# Altium schematic symbol library RC0402FR-0735KL.SchLib: 1 symbol
Pins are listed as number, name and electrical type; pins without a type are passive.

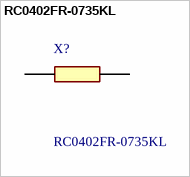
[diagram p0: symbol RC0402FR-0735KL]

## RC0402FR-0735KL
designator X?
GENERAL PURPOSE CHIP RESISTORS RC_L series +/-0.1%, +/-0.5%, +/-1%, +/-5% Sizes 0075/0100/0201/0402/0603/0805/ 1206/1210/1218/2010/2512 RoHS compliant & Halogen free; Manufacturer_Name: YAGEO; Geometry.Height: 0.4mm; Manufacturer_Part_Number: RC0402FR-0735KL; Mouser Part Number: *; Mouser Price/Stock: *; Arrow Part Number: *; Arrow Price/Stock: *; Datasheet Link: https://www.mouser.com/datasheet/2/447/PYu-RC_Group_51_RoHS_L_9-1314892.pdf
footprint RESC1005X40N
pins: 1, 2